# Altium integrated library Filters_001.IntLib: 2 symbols
Pins are listed as number, name and electrical type; pins without a type are passive.

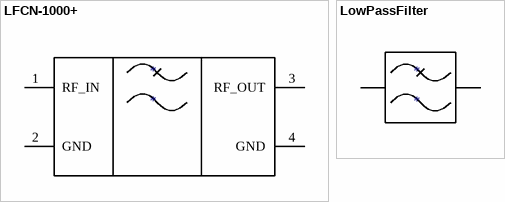
[diagram p0: symbols LFCN-1000+ to LowPassFilter]

## LFCN-1000+
designator *
footprint LFCN-1000
pins: 1 RF_IN, 2 GND, 3 RF_OUT, 4 GND

## LowPassFilter
designator *
pins: 1, 2